# Altium footprint library PCB - MISC - HFBR2531Z.PCBLIB: 1 footprints
Each footprint in its own frame and in the unit in brackets; x right, y up, seen from the top. Pads: shape width x height; smd on the part's side, far side on the other; paste and mask are expansions set on the pad; w line width, h text height; cw(c..) or ccw(c..) is an arc to the next point about the centre after c.
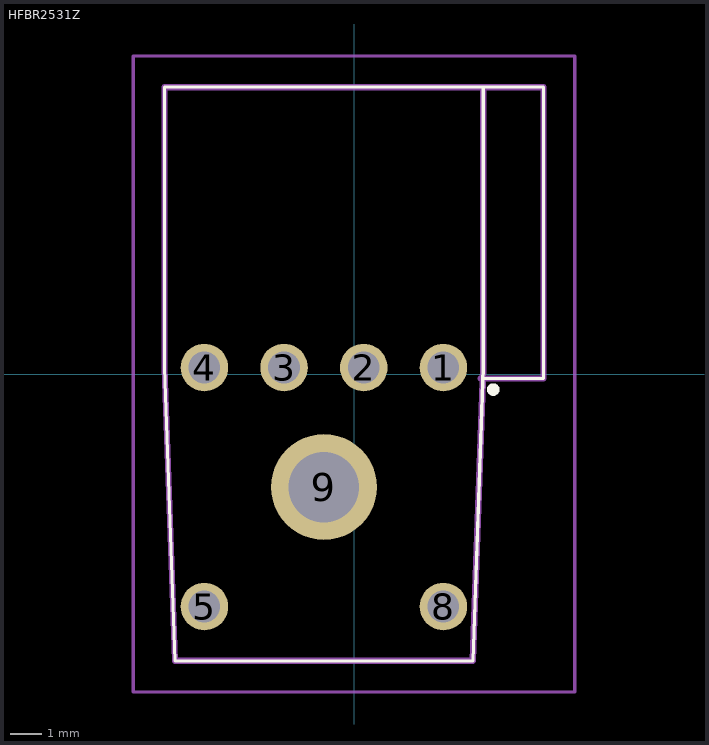
[diagram p0: the footprint, top view; thin cyan lines are the x and y axes]

## HFBR2531Z [mm]
pads (7):
  round 1.515 hole 1.01: 1(2.85,0.205) 2(0.31,0.205) 3(-2.23,0.205) 4(-4.77,0.205) 5(-4.77,-7.415) 8(2.85,-7.415)
  round 3.375 hole 2.25: 9(-0.96,-3.605)
Top Overlay:
  lines w0.1: 4.12,-0.145 6.04,-0.145 6.04,9.145 4.12,9.145 ; 4.12,9.145 -6.04,9.145 -6.04,0.205 -5.71,-9.145 3.79,-9.145 4.12,0.205 4.12,9.145
  lines w0.2: 4.44,-0.595 cw(c4.44,-0.495) 4.44,-0.395 cw(c4.44,-0.495) 4.44,-0.595
Top Assembly:
  lines w0.2: 4.04,-0.145 6.04,-0.145 6.04,9.145 4.12,9.145 ; 4.12,9.145 4.12,0.205 3.79,-9.145 -5.71,-9.145 -6.04,0.205 -6.04,9.145 4.12,9.145
Top Courtyard:
  lines w0.1: -7.04,-10.145 -7.04,10.145 7.04,10.145 7.04,-10.145 -7.04,-10.145
Top Designator:
  text ".Designator" at -6.985,11.303 h1
Top Value (Mech13):
  text ".Comment" at -6.985,10.414 h1
3D body "confidential 3D VL Vertical.stp": height 18.59, standoff -3.38, extent -6.045,-9.271 6.299,8.844